# Altium schematic symbol library Microcontrollers.SchLib: 1 symbol
Pins are listed as number, name and electrical type; pins without a type are passive.

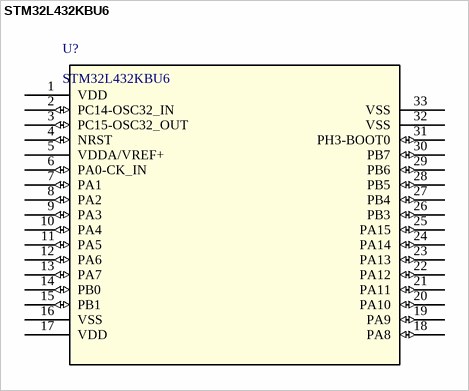
[diagram p0: symbol STM32L432KBU6]

## STM32L432KBU6
designator U?
Ultra-low-power with FPU ARM Cortex-M4 MCU 80 MHz with 128 Kbytes Flash, USB; Manufacturer: STMicroelectronics; Interface: I2C,SPI,USB,IrDA,UART,USART; Peripherals: Brown-out Detect/Reset,PWM,WDT,DMA; Number of I/Os: 26; Memory Size: 128KB; Oscillator Type: Internal; Supplier 1: Digikey; Manufacturer Part Number: STM32L432KBU6; RoHS: Yes; Category: Microcontrollers; Stock 1: 10176; Pricing 1: 1=4.33, 10=3.284, 25=3.0224, 100=2.7343, 250=2.59696, 500=2.51416, 1000=2.44602, 2940=2.3632 (USD); Case/Package: UFQFPN; Min Operating Temperature: -40°C; Max Operating Temperature: 85°C; Memory Type: FLASH; Packaging: Tray; Core Architecture: ARM; Series: STM32L4; RoHS Compliant: Yes; ComponentLink1URL: http://www.farnell.com/datasheets/2283391.pdf?src-supplier=Farnell; ComponentLink1Description: http://www.farnell.com/datasheets/2283391.pdf?src-supplier=Farnell; ComponentLink2URL: http://www.st.com/content/ccc/resource/technical/document/datasheet/24/01/9f/59/f0/83/47/fc/DM00257205.pdf/files/DM00257205.pdf/jcr:content/translations/en.DM00257205.pdf?src-supplier=Digikey; ComponentLink2Description: http://www.st.com/content/ccc/resource/technical/document/datasheet/24/01/9f/59/f0/83/47/fc/DM00257205.pdf/files/DM00257205.pdf/jcr:content/translations/en.DM00257205.pdf?src-supplier=Digikey; ComponentLink3URL: http://www.farnell.com/datasheets/2283391.pdf?src-supplier=Newark; ComponentLink3Description: http://www.farnell.com/datasheets/2283391.pdf?src-supplier=Newark; ComponentLink4URL: https://datasheet.octopart.com/STM32L432KBU6-STMicroelectronics-datasheet-62336852.pdf?src-supplier=SHENGYU+ELECTRONICS; ComponentLink4Description: https://datasheet.octopart.com/STM32L432KBU6-STMicroelectronics-datasheet-62336852.pdf?src-supplier=SHENGYU+ELECTRONICS; ComponentLink5URL: https://datasheet.octopart.com/STM32L432KBU6-STMicroelectronics-datasheet-137130199.pdf?src-supplier=TME; ComponentLink5Description: https://datasheet.octopart.com/STM32L432KBU6-STMicroelectronics-datasheet-137130199.pdf?src-supplier=TME; Supplier Part Number 1: 497-16577-ND; LCSC: C2928224
footprint UFQFPN-32
pins: 1 VDD (power), 2 PC14-OSC32_IN (io), 3 PC15-OSC32_OUT (io), 4 NRST (io), 5 VDDA/VREF+ (power), 6 PA0-CK_IN (io), 7 PA1 (io), 8 PA2 (io), 9 PA3 (io), 10 PA4 (io), 11 PA5 (io), 12 PA6 (io), 13 PA7 (io), 14 PB0 (io), 15 PB1 (io), 16 VSS (power), 17 VDD (power), 18 PA8 (io), 19 PA9 (io), 20 PA10 (io), 21 PA11 (io), 22 PA12 (io), 23 PA13 (io), 24 PA14 (io), 25 PA15 (io), 26 PB3 (io), 27 PB4 (io), 28 PB5 (io), 29 PB6 (io), 30 PB7 (io), 31 PH3-BOOT0 (io), 32 VSS (power), 33 VSS (power)